# EAGLE library part 2171790001 (library 2171790001)
usb-c surface mount jack
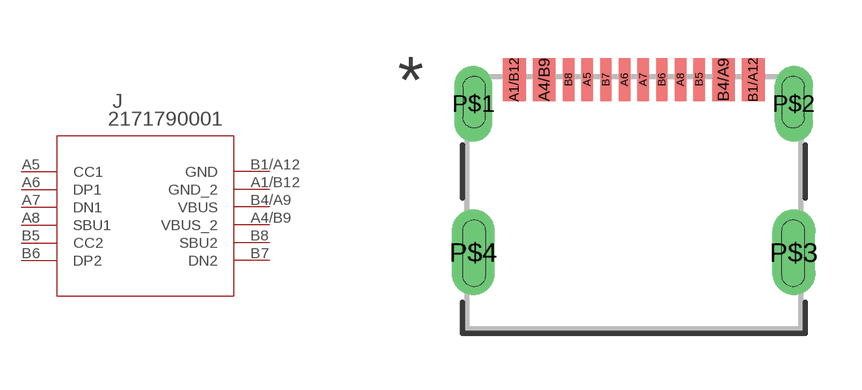
[diagram p0: symbol with the pads of 2171790001_MOL; footprint 2171790001_MOL]

Designator prefix J

## 2171790001 (COPYRIGHT: Copyright (C) 2021 Ultra Librarian. All rights reserved.; MANUFACTURER_PART_NUMBER: 2171790001; MFR_NAME: Molex Connector Corporation)  [2171790001_MOL]
A1/B12  GND_2  pas
A4/B9  VBUS_2  pwr
A5  CC1
A6  DP1
A7  DN1
A8  SBU1
B1/A12  GND  pas
B4/A9  VBUS  pwr
B5  CC2
B6  DP2
B7  DN2
B8  SBU2

## Footprint 2171790001_MOL (pad centres in mm)
smd 0.61 x 1.143: A1/B12 -3.168,3.303; A4/B9 -2.368,3.303; B1/A12 3.232,3.303; B4/A9 2.432,3.303
smd 0.305 x 1.143: A5 -1.218,3.303; A6 -0.218,3.303; A7 0.282,3.303; A8 1.282,3.303; B5 1.782,3.303; B6 0.782,3.303; B7 -0.718,3.303; B8 -1.718,3.303
drill 0.5 pad 1.016 long: P$1 -4.266,2.656; P$2 4.316,2.656
drill 0.5 pad 1.15 long: P$3 4.316,-1.328; P$4 -4.266,-1.328